# Altium footprint library Antenna.PcbLib: 2 footprints
Each footprint in its own frame and in the unit in brackets; x right, y up, seen from the top. Pads: shape width x height; smd on the part's side, far side on the other; paste and mask are expansions set on the pad; w line width, h text height; cw(c..) or ccw(c..) is an arc to the next point about the centre after c.
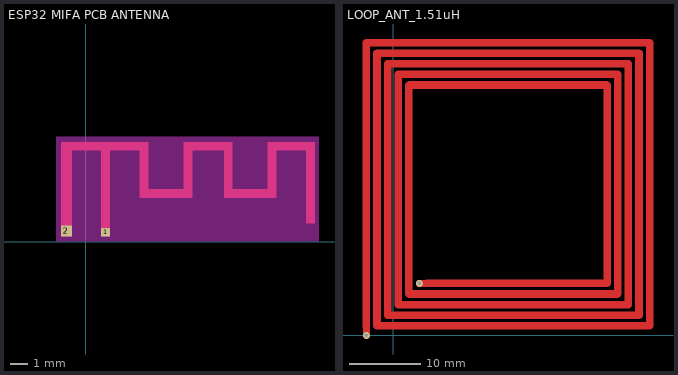
[diagram p0: the footprints below, top view; thin cyan lines are the x and y axes]

## ESP32 MIFA PCB ANTENNA [mm]
pads (2):
  rect 0.5x0.5 smd mask-2539.97: 1(1.118,0.536)
  rect 0.63x0.63 smd mask-2539.97: 2(-1.121,0.605)
Top Layer:
  rectangle: 12.567,1.027 13.067,5.697
  rectangle: 10.367,5.197 13.067,5.697
  region: 10.867,2.497 10.867,5.697 10.367,5.697 10.367,2.497
  region: 10.867,2.997 7.867,2.997 7.867,2.497 10.867,2.497
  region: 8.367,2.497 8.367,5.697 7.867,5.697 7.867,2.497
  region: 8.367,5.697 5.567,5.697 5.567,5.197 8.367,5.197
  region: 6.067,2.497 6.067,5.697 5.567,5.697 5.567,2.497
  region: 6.067,2.997 3.067,2.997 3.067,2.497 6.067,2.497
  region: 3.567,2.497 3.567,5.697 3.067,5.697 3.067,2.497
  region: 3.567,5.697 -1.433,5.697 -1.433,5.197 3.567,5.197
  region: 0.867,5.697 0.867,0.287 1.367,0.287 1.367,5.697
  region: -1.433,5.697 -1.433,0.287 -0.803,0.287 -0.803,5.697
Top Layer keep-out:
  rectangle: -1.7,0 13.3,6
Top Solder:
  region: 0.868,0.286 0.868,0.786 1.368,0.786 1.368,0.286
  region: -1.436,0.29 -1.436,0.92 -0.806,0.92 -0.806,0.29

## LOOP_ANT_1.51uH [mm]
pads (2):
  round 1 hole 0.5: 1(-3.771,0) 2(3.712,7.346)
Top Layer:
  region: 174 vertices and 0 holes, not listed, extent -4.276,0.8 36.725,41.857
  lines w1: -3.771,0 -3.771,1.671 ; 3.712,7.346 5.221,7.346